# Altium integrated library resistor.IntLib: 1 symbol
Pins are listed as number, name and electrical type; pins without a type are passive.

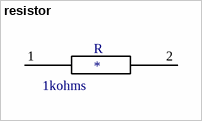
[diagram p0: symbol resistor]

## resistor
designator R  R: 1kohms
footprint RESISTOR
pins: 1, 2